# Altium footprint library MicroSD.PcbLib: 2 footprints
Each footprint in its own frame and in the unit in brackets; x right, y up, seen from the top. Pads: shape width x height; smd on the part's side, far side on the other; paste and mask are expansions set on the pad; w line width, h text height; cw(c..) or ccw(c..) is an arc to the next point about the centre after c.
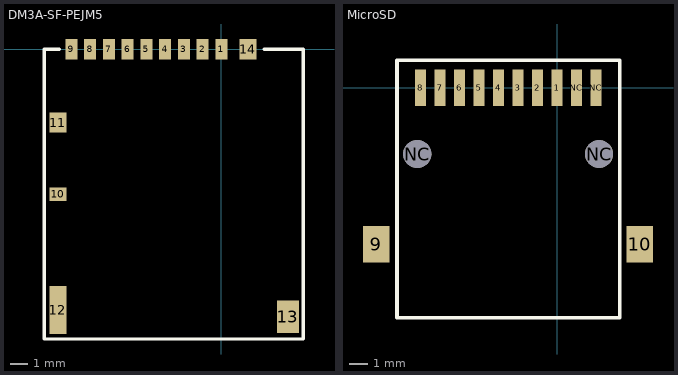
[diagram p0: the footprints below, top view; thin cyan lines are the x and y axes]

## DM3A-SF-PEJM5 [mm]
pads (14):
  rect 0.7x1.2 smd: 1(0,0) 2(-1.1,0) 3(-2.2,0) 4(-3.3,0) 5(-4.4,0) 6(-5.5,0) 7(-6.6,0) 8(-7.7,0) 9(-8.8,0)
  rect 1x0.8 smd: 10(-9.6,-8.5)
  rect 1x1.2 smd: 11(-9.6,-4.3) 14(1.55,0)
  rect 1x2.8 smd: 12(-9.6,-15.3)
  rect 1.3x1.9 smd: 13(3.9,-15.7)
Top Overlay:
  lines w0.2: -9.5,0 -10.4,0 -10.4,-17 4.8,-17 4.8,0 2.5,0
3D body: height 1.95, standoff -0.03, extent -11,-16.925 5.1,0.125

## MicroSD [mm] "ATOM010050040031"
height 2
pads (14):
  rect 0.6x2 smd: 1(0,0) 2(-1.06,0) 3(-2.12,0) 4(-3.18,0) 5(-4.24,0) 6(-5.3,0) 7(-6.36,0) 8(-7.42,0) NC(1.06,0) NC(2.12,0)
  rect 1.45x2 smd: 9(-9.82,-8.5) 10(4.48,-8.5)
  round 1.524 hole 1.524 paste+0 mask+0: NC(-7.6,-3.6) NC(2.28,-3.6)
Top Overlay:
  lines w0.2: -8.7,-12.5 3.4,-12.5 3.4,1.5 -8.7,1.5 -8.7,-12.5